# Altium footprint library Header2Pin.PcbLib: 1 footprints
Each footprint in its own frame and in the unit in brackets; x right, y up, seen from the top. Pads: shape width x height; smd on the part's side, far side on the other; paste and mask are expansions set on the pad; w line width, h text height; cw(c..) or ccw(c..) is an arc to the next point about the centre after c.
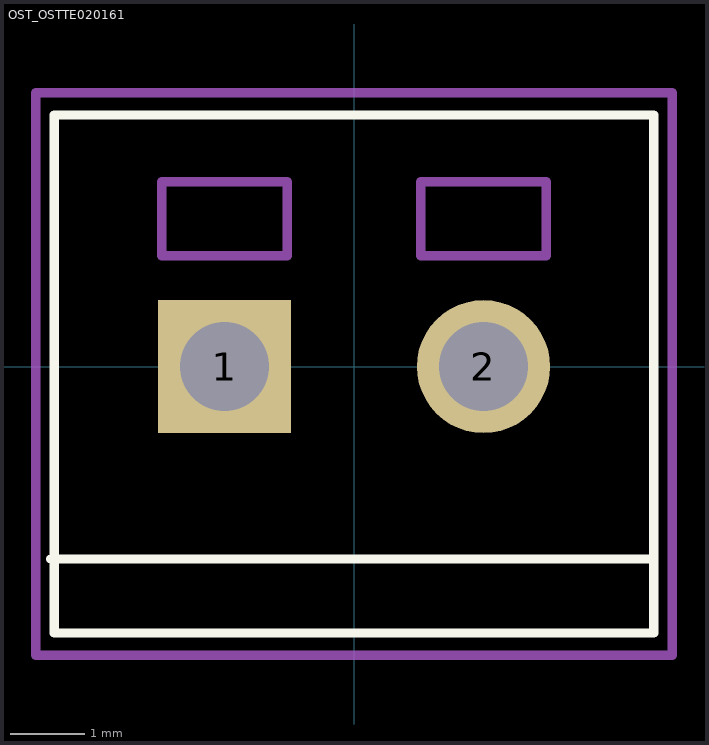
[diagram p0: the footprint, top view; thin cyan lines are the x and y axes]

## OST_OSTTE020161 [mm]
pads (2):
  rect 1.8x1.8 hole 1.2: 1(-1.75,0)
  round 1.8 hole 1.2: 2(1.75,0)
Top Overlay:
  lines w0.127: -4.1,-2.6 4,-2.6 ; -4.05,-3.6 -4.05,3.4 4.05,3.4 4.05,-3.6 -4.05,-3.6
Mechanical 13:
  lines w0.127: -2.6,1.5 -0.9,1.5 -0.9,2.5 -2.6,2.5 -2.6,1.5 ; 0.9,1.5 2.6,1.5 2.6,2.5 0.9,2.5 0.9,1.5
Mechanical 15:
  lines w0.127: -4.3,-3.9 -4.3,3.7 4.3,3.7 4.3,-3.9 -4.3,-3.9